# Altium footprint library Const_Cur_Source.PCBLIB: 58 footprints (part 4 of 4)
Each footprint in its own frame and in the unit in brackets; x right, y up, seen from the top. Pads: shape width x height; smd on the part's side, far side on the other; paste and mask are expansions set on the pad; w line width, h text height; cw(c..) or ccw(c..) is an arc to the next point about the centre after c.
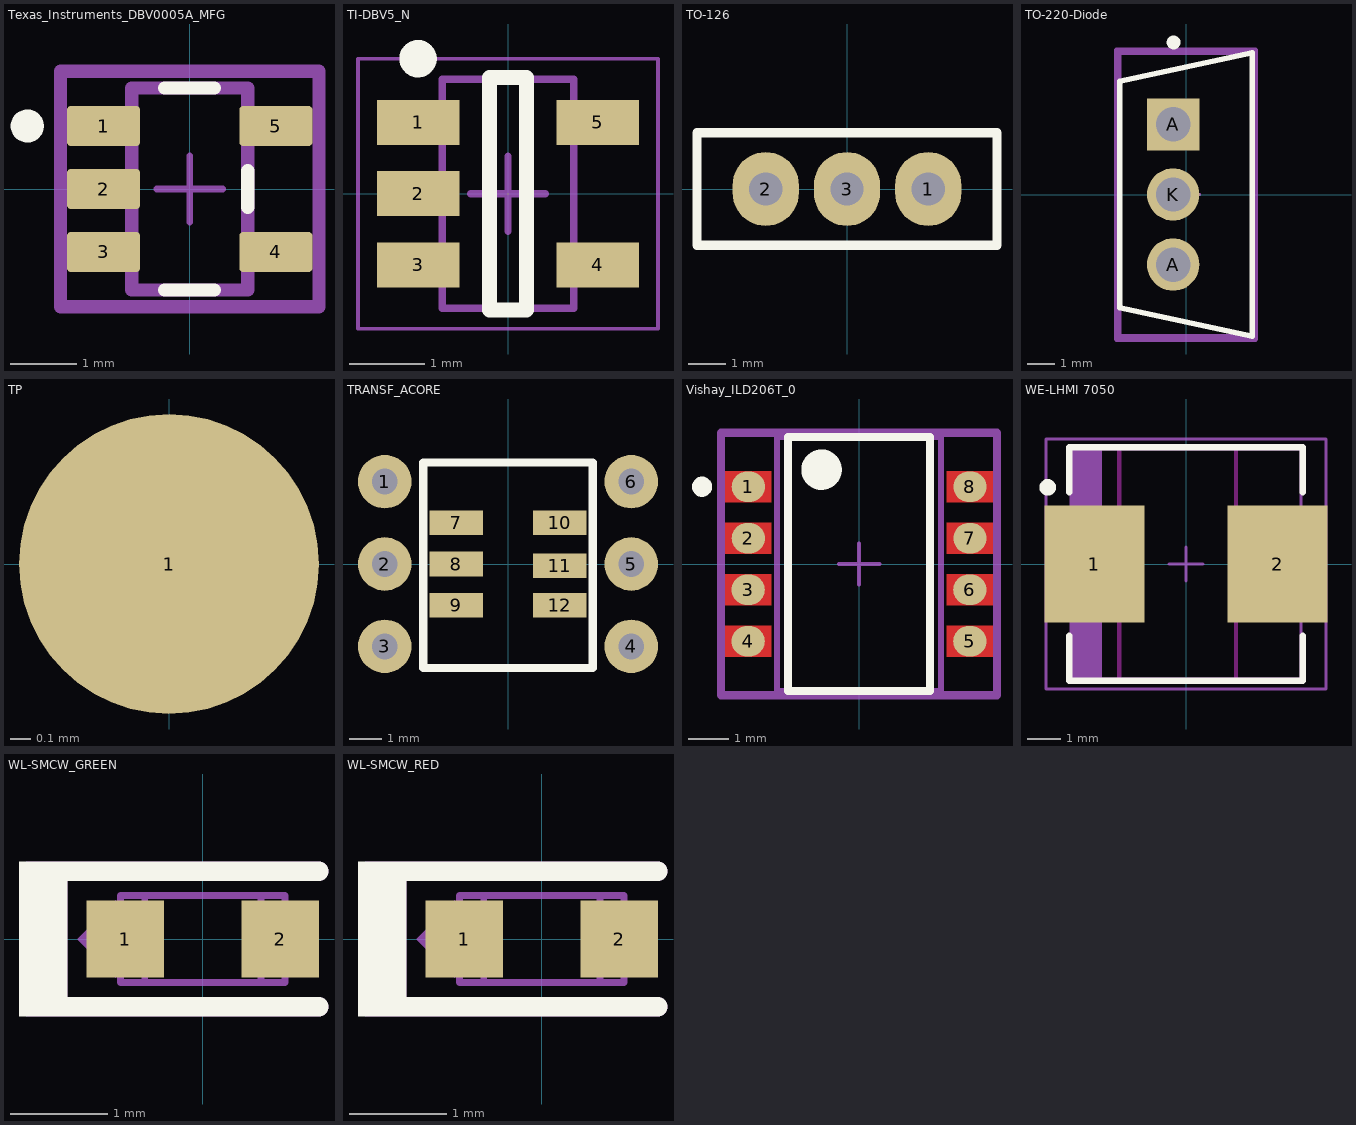
[diagram p3: the footprints below, top view; thin cyan lines are the x and y axes]

## Texas_Instruments_DBV0005A_MFG [mm]
pads (5):
  rrect17% 1.1x0.6 smd paste+0 mask+0: 1(-1.3,0.95) 2(-1.3,0) 3(-1.3,-0.95) 4(1.3,-0.95) 5(1.3,0.95)
Top Overlay:
  circle w0.25: c-2.45,0.95 r0.125
  lines w0.2: -0.375,-1.525 0.375,-1.525 ; -0.375,1.525 0.375,1.525 ; 0.875,-0.275 0.875,0.275
bOrigins:
  lines w0.2: -1.95,-1.775 1.95,-1.775 1.95,1.775 -1.95,1.775 -1.95,-1.775
  text ".Designator" at 0,-0.001 h1
bGlue:
  lines w0.2: -0.875,-1.525 0.875,-1.525 0.875,1.525 -0.875,1.525 -0.875,-1.525
Unrouted:
  lines w0.1: -0.5,0 0.5,0 ; 0,-0.5 0,0.5
  lines w0.2: -1.95,-1.775 1.95,-1.775 1.95,1.775 -1.95,1.775 -1.95,-1.775
3D body "IC_Texas_Instruments_TPS613222ADBVT_eec.STEP": height 0.25, standoff 0, extent -1.95,-1.775 1.95,1.775

## TI-DBV5_N [mm] "SOT23, 5-Leads, Body 2.9x1.6mm, Pitch 0.95mm, IPC Medium Density"
height 1.45
pads (5):
  rect 1.1x0.6 smd: 1(-1.2,0.95) 2(-1.2,0) 3(-1.2,-0.95) 4(1.2,-0.95) 5(1.2,0.95)
Top Overlay:
  circle w0.25: c-1.2,1.8 r0.125
  lines w0.2: -0.25,-1.55 0.25,-1.55 0.25,1.55 -0.25,1.55 -0.25,-1.55
tTest:
  lines w0.1: -0.875,-1.525 -0.875,1.525 0.875,1.525 0.875,-1.525 -0.875,-1.525
Unrouted:
  lines w0.05: -2,-1.8 -2,1.8 2,1.8 2,-1.8 -2,-1.8
  lines w0.1: -0.5,0 0.5,0 ; 0,-0.5 0,0.5
3D body: height 1.45, standoff 0, extent -0.875,-1.525 0.875,1.525

## TO-126 [mm]
pads (3):
  oval 1.8x2 hole 0.9: 1(2.2,0) 2(-2.2,0) 3(0,0)
Top Overlay:
  lines w0.254: -4.064,-1.524 -4.064,1.524 4.064,1.524 4.064,-1.524 -4.064,-1.524

## TO-220-Diode [mm]
pads (3):
  round 1.9 hole 1.25 paste-1000 mask+0: A(-0.467,-2.54) K(-0.467,0)
  rect 1.9x1.9 hole 1.25 paste-1000 mask+0: A(-0.467,2.54)
Top Overlay:
  circle w0.25: c-0.45,5.515 r0.125
  lines w0.2: 2.41,-5.14 -2.41,-4.112 -2.41,4.112 2.41,5.14 ; 2.41,-5.09 2.41,5.09
bOrigins:
  lines w0.2: -2.51,-5.24 2.51,-5.24 2.51,5.24 -2.51,5.24 -2.51,-5.24
  text ".Designator" at 0,0 h1
bGlue:
  lines w0.15: -2.41,-5.14 2.41,-5.14 2.41,5.14 -2.41,5.14 -2.41,-5.14
Unrouted:
  lines w0.1: -0.5,0 0.5,0 ; 0,-0.5 0,0.5
  lines w0.2: -2.51,-5.24 2.51,-5.24 2.51,5.24 -2.51,5.24 -2.51,-5.24
3D body "IC_ON_Semi_MC7812CTG_eec.STEP": height 0.25, standoff 0, extent -2.51,-5.24 2.51,5.24

## TP [mm]
pads (1):
  round 1.5 smd: 1(0,0)

## TRANSF_ACORE [mm]
pads (12):
  round 1.65 hole 0.8: 1(-3.8,2.54) 2(-3.8,0) 3(-3.8,-2.54) 4(3.8,-2.54) 5(3.8,0) 6(3.8,2.54)
  rect 1.65x0.76 smd: 7(-1.59,1.27) 8(-1.59,0) 9(-1.59,-1.27) 10(1.59,1.27) 11(1.59,-0.055) 12(1.59,-1.27)
Top Overlay:
  lines w0.254: -2.61,-3.21 -2.61,3.13 2.61,3.13 2.61,-3.21 -2.61,-3.21

## Vishay_ILD206T_0 [mm]
pads (8):
  oval 0.819x0.75 smd paste+0 mask+0: 1(-2.73,1.905) 2(-2.73,0.635) 3(-2.734,-0.635) 4(-2.734,-1.905) 5(2.73,-1.905) 6(2.73,-0.635) 7(2.734,0.635) 8(2.734,1.905)
Top:
  region: -3.3,2.286 -2.16,2.286 -2.16,1.524 -3.3,1.524
  region: -3.3,-1.524 -2.16,-1.524 -2.16,-2.286 -3.3,-2.286
  region: -3.3,1.016 -2.16,1.016 -2.16,0.254 -3.3,0.254
  region: -3.3,-0.254 -2.16,-0.254 -2.16,-1.016 -3.3,-1.016
  region: 2.161,-0.254 3.301,-0.254 3.301,-1.016 2.161,-1.016
  region: 2.161,-1.524 3.301,-1.524 3.301,-2.286 2.161,-2.286
  region: 2.161,1.016 3.301,1.016 3.301,0.254 2.161,0.254
  region: 2.161,2.286 3.301,2.286 3.301,1.524 2.161,1.524
Top Overlay:
  circle w0.5: c-0.925,2.325 r0.25
  circle w0.25: c-3.87,1.905 r0.125
  lines w0.2: -1.75,-3.135 -1.75,3.135 1.75,3.135 1.75,-3.135 -1.75,-3.135
bOrigins:
  lines w0.2: -3.4,-3.235 -3.4,3.235 3.4,3.235 3.4,-3.235 -3.4,-3.235
  text ".Designator" at 0,0 h1
bGlue:
  lines w0.15: -2.02,-3.135 -2.02,3.135 2.02,3.135 2.02,-3.135 -2.02,-3.135
Unrouted:
  lines w0.1: -0.5,0 0.5,0 ; 0,-0.5 0,0.5
  lines w0.2: -3.4,-3.235 -3.4,3.235 3.4,3.235 3.4,-3.235 -3.4,-3.235
3D body "Trans_Vishay_ILD206T_eec.STEP": height 0.25, standoff 0, extent -3.4,-3.235 3.4,3.235

## WE-LHMI 7050 [mm] "SMD Inductor, 2-Leads, Body 7.3 x 6.6mm"
height 4.8
pads (2):
  rect 3x3.5 smd: 1(-2.75,0) 2(2.75,0)
Top Overlay:
  circle w0.25: c-4.15,2.3 r0.125
  lines w0.2: -3.5,-2.15 -3.5,-3.5 3.5,-3.5 3.5,-2.15 ; -3.5,2.15 -3.5,3.5 3.5,3.5 3.5,2.15
Keep-Out Layer:
  lines w0.127: -2,-3.5 -2,3.5 1.5,3.5 1.5,-3.5 -2,-3.5
tTest:
  rectangle: -3.45,-3.45 -2.522,3.45
  lines w0.1: -3.45,-3.45 -3.45,3.45 3.45,3.45 3.45,-3.45 -3.45,-3.45
Unrouted:
  lines w0.1: -0.5,0 0.5,0 ; 0,-0.5 0,0.5 ; -4.2,-3.75 -4.2,3.75 4.2,3.75 4.2,-3.75 -4.2,-3.75
3D body "WE-LHMI_7050LHMI.stp": height 4.8, standoff 0, extent -3.65,-3.3 3.65,3.3

## WL-SMCW_GREEN [mm]
pads (2):
  rect 0.8x0.8 smd: 1(-0.8,0) 2(0.8,0)
Top Overlay:
  rectangle: -1.9,-0.8 -1.4,0.8
  lines w0.2: -1.6,-0.7 1.2,-0.7 ; -1.6,0.7 1.2,0.7
tValues:
  region: -0.9,-0.4 -0.9,0.4 -1.3,0
  lines w0.2: -1.65,-0.7 -1.65,0.55 ; 1.2,-0.7 -1.5,-0.7 ; 1.2,0.7 -1.5,0.7 ; -1.5,-0.7 -1.5,0.7 ; -1.5,-0.7 -1.8,-0.7 -1.8,0.7 -1.5,0.7
  text ".Designator" at -0.8,-0.3 h0.45
tTest:
  lines w0.07: -0.6,-0.45 -0.6,0.45 ; 0.6,-0.45 0.6,0.45 ; -0.85,-0.45 -0.85,0.45 0.85,0.45 0.85,-0.45 -0.85,-0.45
3D body: height 0.35, standoff 0, extent -0.849,-0.449 -0.601,0.449
3D body: height 0.35, standoff 0, extent -0.599,-0.449 0.599,0.449
3D body: height 0.35, standoff 0, extent 0.601,-0.449 0.849,0.449
3D body: height 0.8, standoff 0.35, extent -0.599,-0.449 0.599,0.449

## WL-SMCW_RED [mm]
pads (2):
  rect 0.8x0.8 smd: 1(-0.8,0) 2(0.8,0)
Top Overlay:
  rectangle: -1.9,-0.8 -1.4,0.8
  lines w0.2: -1.6,-0.7 1.2,-0.7 ; -1.6,0.7 1.2,0.7
tValues:
  region: -0.9,-0.4 -0.9,0.4 -1.3,0
  lines w0.2: -1.65,-0.7 -1.65,0.55 ; 1.2,-0.7 -1.5,-0.7 ; 1.2,0.7 -1.5,0.7 ; -1.5,-0.7 -1.5,0.7 ; -1.5,-0.7 -1.8,-0.7 -1.8,0.7 -1.5,0.7
  text ".Designator" at -0.8,-0.3 h0.45
tTest:
  lines w0.07: -0.6,-0.45 -0.6,0.45 ; 0.6,-0.45 0.6,0.45 ; -0.85,-0.45 -0.85,0.45 0.85,0.45 0.85,-0.45 -0.85,-0.45
3D body: height 0.35, standoff 0, extent -0.849,-0.449 -0.601,0.449
3D body: height 0.35, standoff 0, extent -0.599,-0.449 0.599,0.449
3D body: height 0.35, standoff 0, extent 0.601,-0.449 0.849,0.449
3D body: height 0.8, standoff 0.35, extent -0.599,-0.449 0.599,0.449